# EAGLE library part TSW-123-02-S-Q (library con-samtec)
THROUGH-HOLE .025" SQ POST HEADER Source: Samtec TSW.pdf
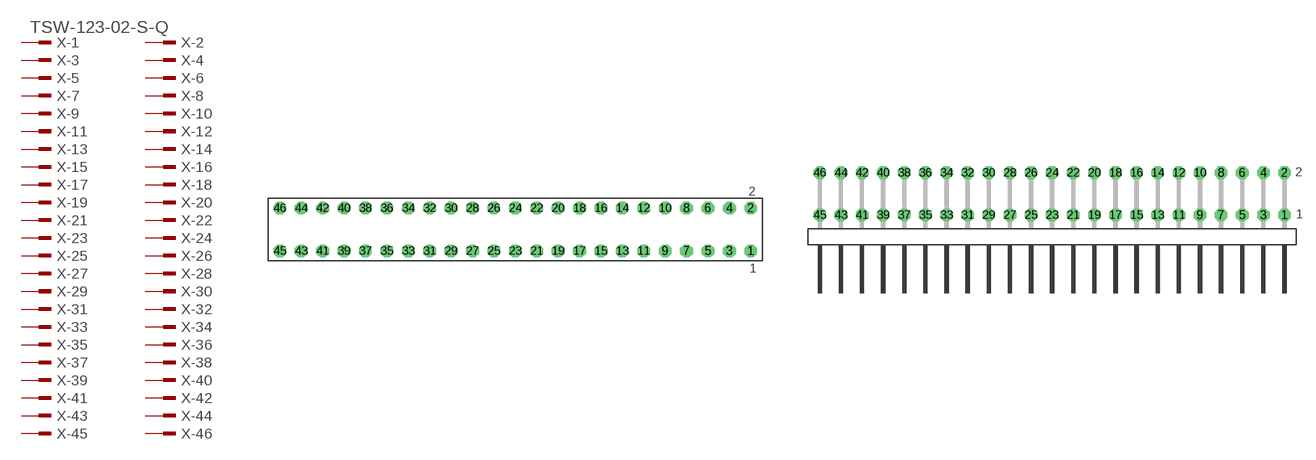
[diagram p267: symbol with the pads of TSW-123-02-S-Q; footprints TSW-123-02-S-Q, TSW-123-02-S-Q-RA]

Designator prefix X; gates -1=MPINV -2=MPIN -3=MPIN -4=MPIN -5=MPIN -6=MPIN -7=MPIN -8=MPIN -9=MPIN -10=MPIN -11=MPIN -12=MPIN -13=MPIN -14=MPIN -15=MPIN -16=MPIN -17=MPIN -18=MPIN -19=MPIN -20=MPIN -21=MPIN -22=MPIN -23=MPIN -24=MPIN -25=MPIN -26=MPIN -27=MPIN -28=MPIN -29=MPIN -30=MPIN -31=MPIN -32=MPIN -33=MPIN -34=MPIN -35=MPIN -36=MPIN -37=MPIN -38=MPIN -39=MPIN -40=MPIN -41=MPIN -42=MPIN -43=MPIN -44=MPIN -45=MPIN -46=MPIN

## TSW-123-02-S-Q (OC_FARNELL: unknown; OC_NEWARK: unknown)  [TSW-123-02-S-Q]
1  -1:1  pas
2  -2:1  pas
3  -3:1  pas
4  -4:1  pas
5  -5:1  pas
6  -6:1  pas
7  -7:1  pas
8  -8:1  pas
9  -9:1  pas
10  -10:1  pas
11  -11:1  pas
12  -12:1  pas
13  -13:1  pas
14  -14:1  pas
15  -15:1  pas
16  -16:1  pas
17  -17:1  pas
18  -18:1  pas
19  -19:1  pas
20  -20:1  pas
21  -21:1  pas
22  -22:1  pas
23  -23:1  pas
24  -24:1  pas
25  -25:1  pas
26  -26:1  pas
27  -27:1  pas
28  -28:1  pas
29  -29:1  pas
30  -30:1  pas
31  -31:1  pas
32  -32:1  pas
33  -33:1  pas
34  -34:1  pas
35  -35:1  pas
36  -36:1  pas
37  -37:1  pas
38  -38:1  pas
39  -39:1  pas
40  -40:1  pas
41  -41:1  pas
42  -42:1  pas
43  -43:1  pas
44  -44:1  pas
45  -45:1  pas
46  -46:1  pas

## TSW-123-02-S-Q-RA (OC_FARNELL: unknown; OC_NEWARK: unknown)  [TSW-123-02-S-Q-RA]
Pads as for TSW-123-02-S-Q

## Footprint TSW-123-02-S-Q (pad centres in mm)
THROUGH-HOLE .025" SQ POST HEADER Source: Samtec TSW.pdf
drill 1 pad 1.5 octagon: 1 27.94,-2.54; 2 27.94,2.54; 3 25.4,-2.54; 4 25.4,2.54; 5 22.86,-2.54; 6 22.86,2.54; 7 20.32,-2.54; 8 20.32,2.54; 9 17.78,-2.54; 10 17.78,2.54; 11 15.24,-2.54; 12 15.24,2.54; 13 12.7,-2.54; 14 12.7,2.54; 15 10.16,-2.54; 16 10.16,2.54; 17 7.62,-2.54; 18 7.62,2.54; 19 5.08,-2.54; 20 5.08,2.54; 21 2.54,-2.54; 22 2.54,2.54; 23 0,-2.54; 24 0,2.54; 25 -2.54,-2.54; 26 -2.54,2.54; 27 -5.08,-2.54; 28 -5.08,2.54; 29 -7.62,-2.54; 30 -7.62,2.54; 31 -10.16,-2.54; 32 -10.16,2.54; 33 -12.7,-2.54; 34 -12.7,2.54; 35 -15.24,-2.54; 36 -15.24,2.54; 37 -17.78,-2.54; 38 -17.78,2.54; 39 -20.32,-2.54; 40 -20.32,2.54; 41 -22.86,-2.54; 42 -22.86,2.54; 43 -25.4,-2.54; 44 -25.4,2.54; 45 -27.94,-2.54; 46 -27.94,2.54

## Footprint TSW-123-02-S-Q-RA (pad centres in mm)
THROUGH-HOLE .025" SQ POST HEADER Source: Samtec TSW.pdf
drill 1 pad 1.5 octagon: 1 27.94,1.524; 2 27.94,6.604; 3 25.4,1.524; 4 25.4,6.604; 5 22.86,1.524; 6 22.86,6.604; 7 20.32,1.524; 8 20.32,6.604; 9 17.78,1.524; 10 17.78,6.604; 11 15.24,1.524; 12 15.24,6.604; 13 12.7,1.524; 14 12.7,6.604; 15 10.16,1.524; 16 10.16,6.604; 17 7.62,1.524; 18 7.62,6.604; 19 5.08,1.524; 20 5.08,6.604; 21 2.54,1.524; 22 2.54,6.604; 23 0,1.524; 24 0,6.604; 25 -2.54,1.524; 26 -2.54,6.604; 27 -5.08,1.524; 28 -5.08,6.604; 29 -7.62,1.524; 30 -7.62,6.604; 31 -10.16,1.524; 32 -10.16,6.604; 33 -12.7,1.524; 34 -12.7,6.604; 35 -15.24,1.524; 36 -15.24,6.604; 37 -17.78,1.524; 38 -17.78,6.604; 39 -20.32,1.524; 40 -20.32,6.604; 41 -22.86,1.524; 42 -22.86,6.604; 43 -25.4,1.524; 44 -25.4,6.604; 45 -27.94,1.524; 46 -27.94,6.604